# EAGLE library part GENERIC_34_XP (library connector)
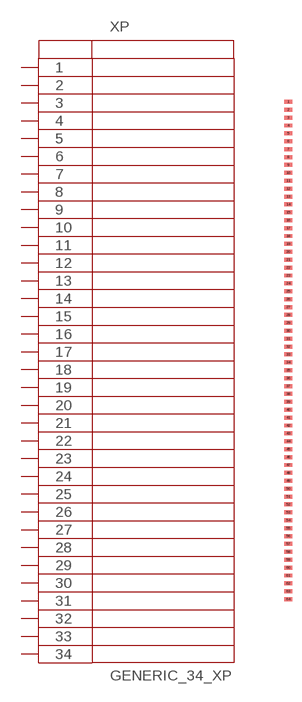
[diagram p20: symbol with the pads of FAKE; footprint FAKE]

Designator prefix XP

## GENERIC_34_XP  [FAKE]
1  1
2  2
3  3
4  4
5  5
6  6
7  7
8  8
9  9
10  10
11  11
12  12
13  13
14  14
15  15
16  16
17  17
18  18
19  19
20  20
21  21
22  22
23  23
24  24
25  25
26  26
27  27
28  28
29  29
30  30
31  31
32  32
33  33
34  34

## Footprint FAKE (pad centres in mm)
Package for shcematics without PCB (for example ГОСТ Э4)
smd 1.27 x 0.635: 1 0,0; 2 0,-1.27; 3 0,-2.54; 4 0,-3.81; 5 0,-5.08; 6 0,-6.35; 7 0,-7.62; 8 0,-8.89; 9 0,-10.16; 10 0,-11.43; 11 0,-12.7; 12 0,-13.97; 13 0,-15.24; 14 0,-16.51; 15 0,-17.78; 16 0,-19.05; 17 0,-20.32; 18 0,-21.59; 19 0,-22.86; 20 0,-24.13; 21 0,-25.4; 22 0,-26.67; 23 0,-27.94; 24 0,-29.21; 25 0,-30.48; 26 0,-31.75; 27 0,-33.02; 28 0,-34.29; 29 0,-35.56; 30 0,-36.83; 31 0,-38.1; 32 0,-39.37; 33 0,-40.64; 34 0,-41.91; 35 0,-43.18; 36 0,-44.45; 37 0,-45.72; 38 0,-46.99; 39 0,-48.26; 40 0,-49.53; 41 0,-50.8; 42 0,-52.07; 43 0,-53.34; 44 0,-54.61; 45 0,-55.88; 46 0,-57.15; 47 0,-58.42; 48 0,-59.69; 49 0,-60.96; 50 0,-62.23; 51 0,-63.5; 52 0,-64.77; 53 0,-66.04; 54 0,-67.31; 55 0,-68.58; 56 0,-69.85; 57 0,-71.12; 58 0,-72.39; 59 0,-73.66; 60 0,-74.93; 61 0,-76.2; 62 0,-77.47; 63 0,-78.74; 64 0,-80.01